# EAGLE library part UCC28630 (library wheat)
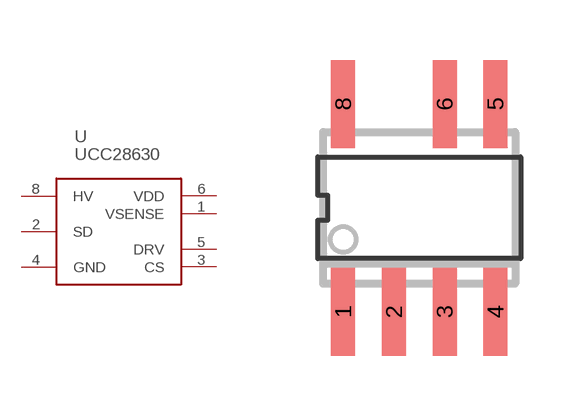
[diagram p194: symbol with the pads of SO8_7P; footprint SO8_7P]

Designator prefix U

## UCC28630D  [SO8_7P]
1  VSENSE  in
2  SD  in
3  CS  in
4  GND  pas
5  DRV  out
6  VDD  pas
8  HV  in

## Footprint SO8_7P (pad centres in mm)
smd 0.6 x 2.2: 1 -1.905,-2.6; 2 -0.635,-2.6; 3 0.635,-2.6; 4 1.905,-2.6; 5 1.905,2.6; 6 0.635,2.6; 8 -1.905,2.6